# Altium schematic symbol library SCH_Power.SchLib: 22 symbols
Pins are listed as number, name and electrical type; pins without a type are passive.

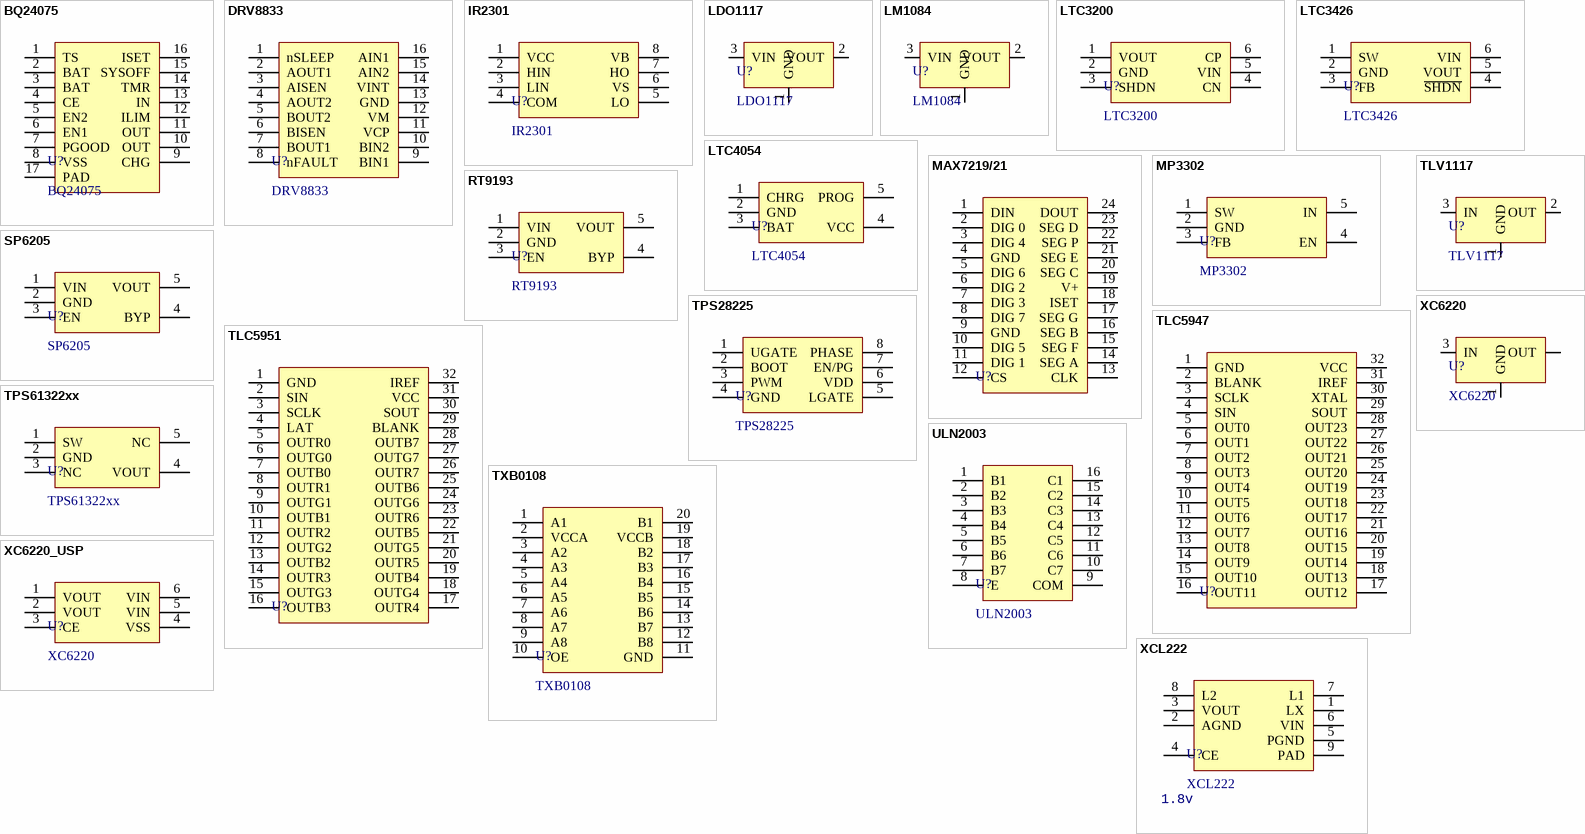
[diagram p0: symbols BQ24075 to XCL222]

## BQ24075
designator U?
Power; Type: QFN16 P0.5
footprint QFN_P0.5_PAD_16
pins: 1 TS, 2 BAT, 3 BAT, 4 CE, 5 EN2, 6 EN1, 7 PGOOD, 8 VSS, 9 CHG, 10 OUT, 11 OUT, 12 ILIM, 13 IN, 14 TMR, 15 SYSOFF, 16 ISET, 17 PAD

## DRV8833
designator U?
H-Bridge; Type: *
footprint TSSOP_E170_P0.65_16
pins: 1 nSLEEP, 2 AOUT1, 3 AISEN, 4 AOUT2, 5 BOUT2, 6 BISEN, 7 BOUT1, 8 nFAULT, 9 BIN1, 10 BIN2, 11 VCP, 12 VM, 13 GND, 14 VINT, 15 AIN2, 16 AIN1

## IR2301
designator U?
MOSFET Driver; Type: *
footprint SOP_E150_8
pins: 1 VCC, 2 HIN, 3 LIN, 4 COM, 5 LO, 6 VS, 7 HO, 8 VB

## LDO1117
designator U?
Power; Type: SOT223-3
footprint SOT223-3
footprint SOT89-3
pins: 1 GND, 2 VOUT, 3 VIN

## LM1084
designator U?
Power
footprint TO-263-3
pins: 1 GND, 2 VOUT (power), 3 VIN

## LTC3200
designator U?
Power; Type: SOT23-6
footprint SOT23-6
pins: 1 VOUT, 2 GND, 3 SHDN, 4 CN, 5 VIN, 6 CP

## LTC3426
designator U?
Power; Type: SOT23-6
footprint SOT23-6
pins: 1 SW, 2 GND, 3 FB, 4 ~{SHDN}, 5 VOUT, 6 VIN

## LTC4054
designator U?
Battery Charger; Type: SOT23-5
footprint SOT23-5
pins: 1 CHRG, 2 GND, 3 BAT, 4 VCC, 5 PROG

## MAX7219/21
designator U?  (value not drawn)
Driver
footprint SOP_E300_24
pins: 1 DIN, 2 DIG 0, 3 DIG 4, 4 GND, 5 DIG 6, 6 DIG 2, 7 DIG 3, 8 DIG 7, 9 GND, 10 DIG 5, 11 DIG 1, 12 CS, 13 CLK, 14 SEG A, 15 SEG F, 16 SEG B, 17 SEG G, 18 ISET, 19 V+, 20 SEG C, 21 SEG E, 22 SEG P, 23 SEG D, 24 DOUT

## MP3302
designator U?
WLED Driver
footprint SOT23-5
pins: 1 SW, 2 GND, 3 FB, 4 EN, 5 IN

## RT9193
designator U?
Power; Value: 3V3; Type: SOT23-5; Manufacturer: *; Specification: *; Note: *
footprint SOT23-5
pins: 1 VIN, 2 GND, 3 EN (power), 4 BYP, 5 VOUT

## SP6205
designator U?
Power; Value: 3V3; Type: SOT23-5; Note: *; Manufacturer: *; Specification: *
footprint SOT23-5
pins: 1 VIN, 2 GND, 3 EN (power), 4 BYP, 5 VOUT

## TLC5947
designator U?  (value not drawn)
LED Driver; Type: *
footprint TSSOP_E250H_P0.65_32
pins: 1 GND, 2 BLANK, 3 SCLK, 4 SIN, 5 OUT0, 6 OUT1, 7 OUT2, 8 OUT3, 9 OUT4, 10 OUT5, 11 OUT6, 12 OUT7, 13 OUT8, 14 OUT9, 15 OUT10, 16 OUT11, 17 OUT12, 18 OUT13, 19 OUT14, 20 OUT15, 21 OUT16, 22 OUT17, 23 OUT18, 24 OUT19, 25 OUT20, 26 OUT21, 27 OUT22, 28 OUT23, 29 SOUT, 30 XTAL, 31 IREF, 32 VCC

## TLC5951
designator U?  (value not drawn)
LED Driver; Type: *
footprint TSSOP_E250H_P0.65_32
pins: 1 GND, 2 SIN, 3 SCLK, 4 LAT, 5 OUTR0, 6 OUTG0, 7 OUTB0, 8 OUTR1, 9 OUTG1, 10 OUTB1, 11 OUTR2, 12 OUTG2, 13 OUTB2, 14 OUTR3, 15 OUTG3, 16 OUTB3, 17 OUTR4, 18 OUTG4, 19 OUTB4, 20 OUTR5, 21 OUTG5, 22 OUTB5, 23 OUTR6, 24 OUTG6, 25 OUTB6, 26 OUTR7, 27 OUTG7, 28 OUTB7, 29 BLANK, 30 SOUT, 31 VCC, 32 IREF

## TLV1117
designator U?
Power; Type: *
footprint SOT223-3
pins: 1 GND (power), 2 OUT (power), 3 IN (power)

## TPS28225
designator U?
MOSFET Driver; Type: *
footprint SOP_E150_8
pins: 1 UGATE, 2 BOOT, 3 PWM, 4 GND, 5 LGATE, 6 VDD, 7 EN/PG, 8 PHASE

## TPS61322xx
designator U?
Power; Value: 5V; Type: SOT23-5
footprint SOT23-5
pins: 1 SW, 2 GND, 3 NC, 4 VOUT, 5 NC

## TXB0108
designator U?
VoltageLevel; Type: *; Value: *
footprint TSSOP_E170_P0.65_20
pins: 1 A1, 2 VCCA, 3 A2, 4 A3, 5 A4, 6 A5, 7 A6, 8 A7, 9 A8, 10 OE, 11 GND, 12 B8, 13 B7, 14 B6, 15 B5, 16 B4, 17 B3, 18 B2, 19 VCCB, 20 B1

## ULN2003
designator U?
Darlington Transistor; Type: *; Value: *
footprint SOP_E150_16
footprint DIP_300_16
pins: 1 B1, 2 B2, 3 B3, 4 B4, 5 B5, 6 B6, 7 B7, 8 E, 9 COM, 10 C7, 11 C6, 12 C5, 13 C4, 14 C3, 15 C2, 16 C1

## XC6220
designator U?
Power; Type: *; Value: *
footprint SOT89-3
pins: 1 GND (power), 2 OUT (power), 3 IN (power)

## XC6220_USP
designator U?, comment XC6220
Power; Type: *; Value: *
footprint SON_P0.5H_6
pins: 1 VOUT, 2 VOUT, 3 CE, 4 VSS, 5 VIN, 6 VIN, 7

## XCL222
designator U?  value 1.8v
DC-DC Converter; Type: SMD8_P0.55; Manufacturer: *
footprint SMD_E25x20_P0.55_8
pins: 1 LX, 2 AGND, 3 VOUT, 4 CE, 5 PGND, 6 VIN, 7 L1, 8 L2, 9 PAD